# EAGLE library part T92S7D12-24 (library custom)
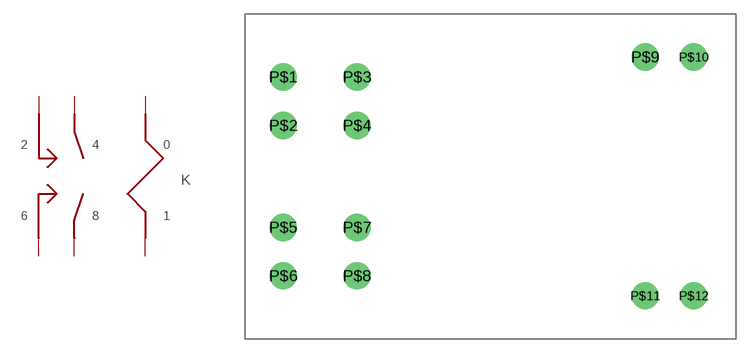
[diagram p0: symbol with the pads of T92; footprint T92]

Designator prefix K

## T92S7D12-24  [T92]
P$1  P$1
P$2  P$1
P$3  P$2
P$4  P$2
P$5  P$4
P$6  P$4
P$7  P$5
P$8  P$5
P$9  P$3
P$10  P$3
P$11  P$6
P$12  P$6

## Footprint T92 (pad centres in mm)
drill 1.93: P$1 -41.097,10.579; P$2 -41.097,5.423; P$3 -33.249,10.579; P$4 -33.249,5.423; P$5 -41.097,-5.423; P$6 -41.097,-10.579; P$7 -33.249,-5.423; P$8 -33.249,-10.579; P$9 -2.578,12.7; P$10 2.578,12.7; P$11 -2.578,-12.7; P$12 2.578,-12.7